# Altium integrated library avago.IntLib: 21 symbols
Pins are listed as number, name and electrical type; pins without a type are passive.

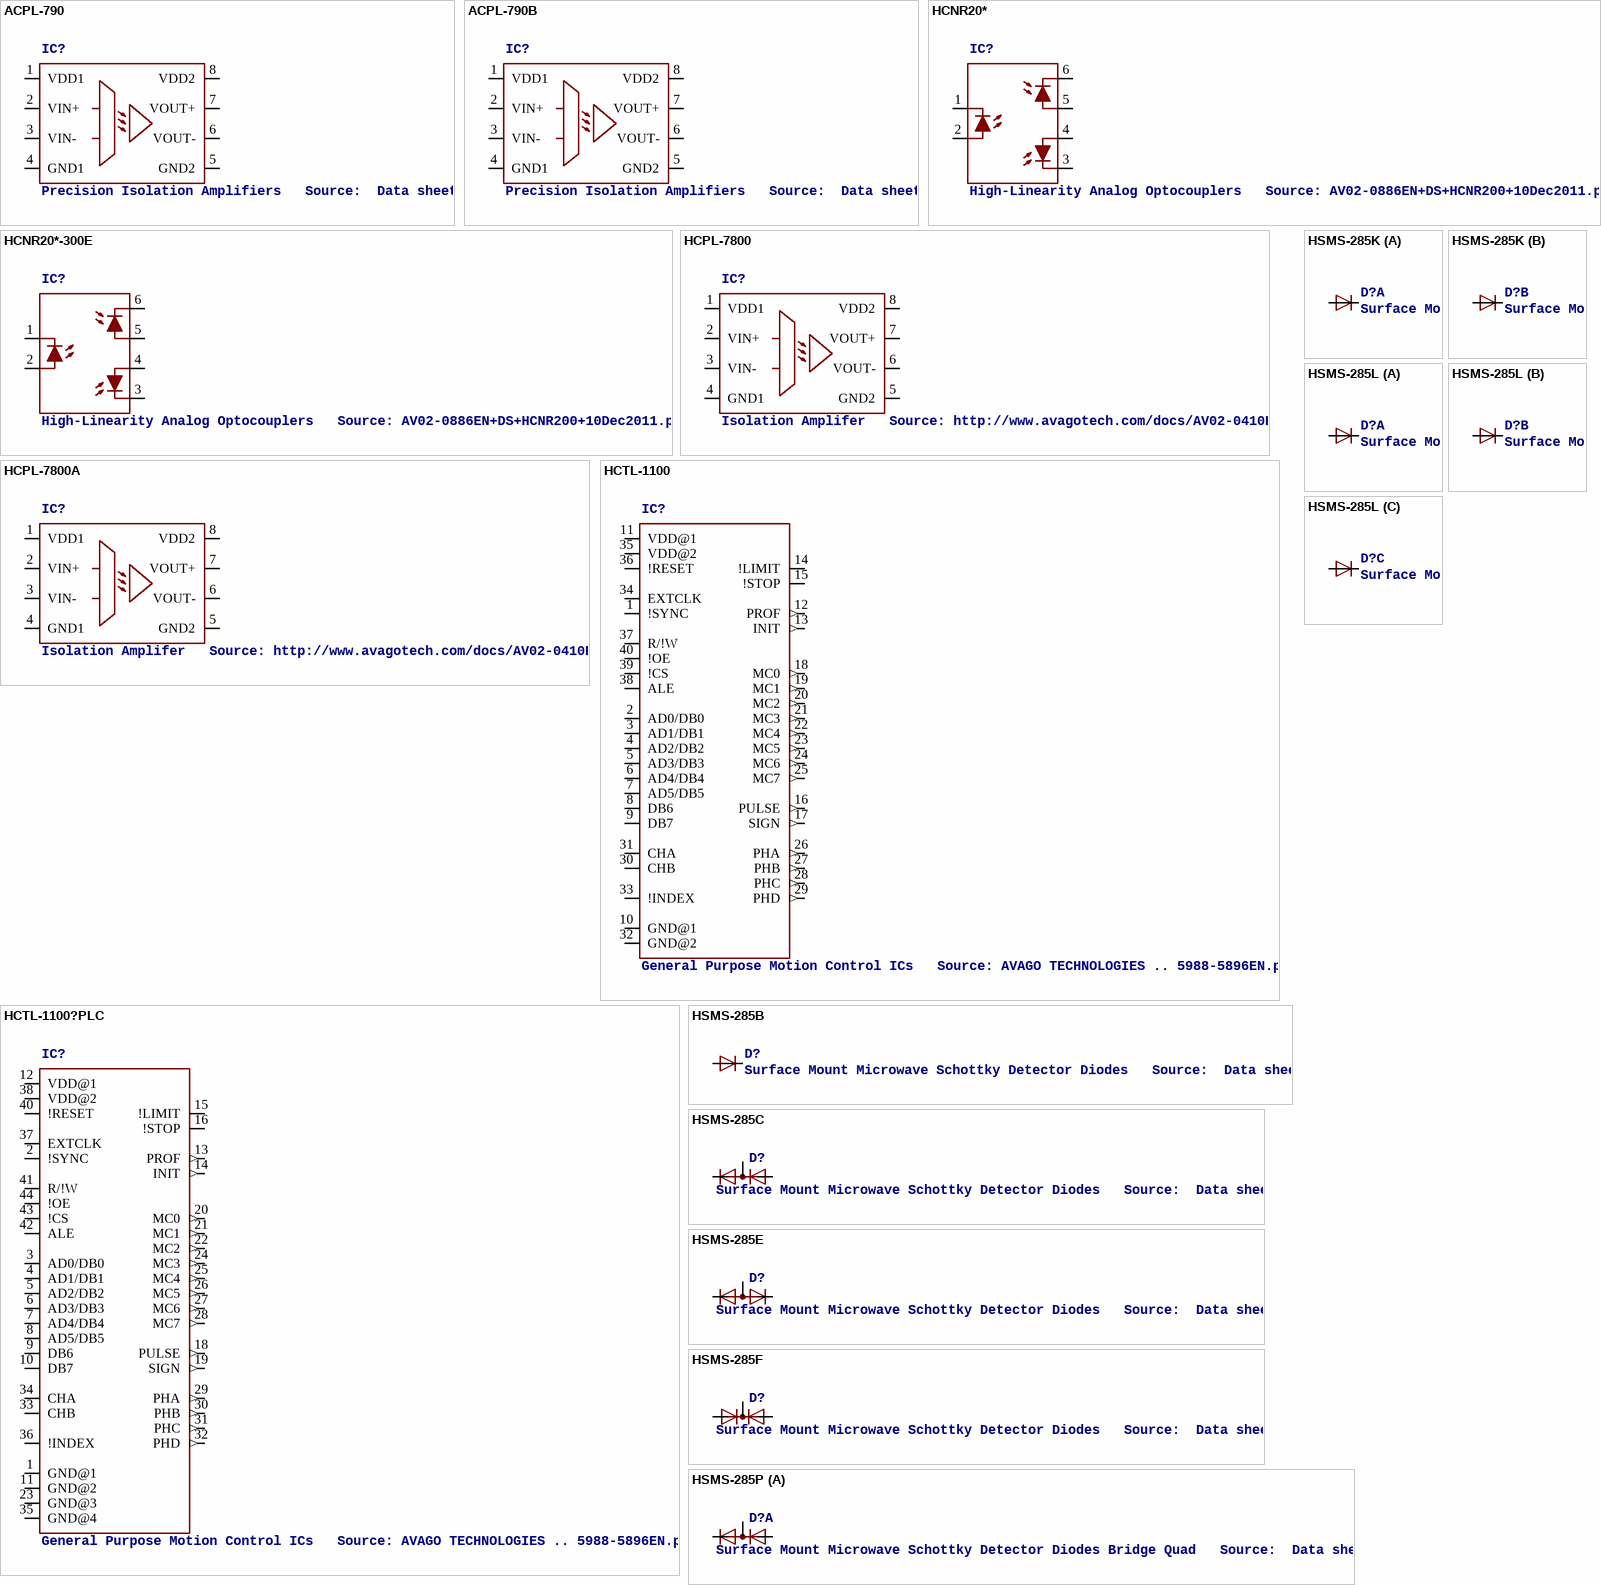
[diagram p0: symbols ACPL-790 to HSMS-285P]

## ACPL-790
designator IC?, comment Precision Isolation Amplifiers   Source:  Data sheet
footprint DIP8
pins: 1 VDD1 (power), 2 VIN+ (power), 3 VIN- (power), 4 GND1 (power), 5 GND2 (power), 6 VOUT- (power), 7 VOUT+ (power), 8 VDD2 (power)

## ACPL-790B
designator IC?, comment Precision Isolation Amplifiers   Source:  Data sheet
footprint DIL08
pins: 1 VDD1 (power), 2 VIN+ (power), 3 VIN- (power), 4 GND1 (power), 5 GND2 (power), 6 VOUT- (power), 7 VOUT+ (power), 8 VDD2 (power)

## HCNR20*
designator IC?, comment High-Linearity Analog Optocouplers   Source: AV02-0886EN+DS+HCNR200+10Dec2011.pdf
footprint DIL08-400
pins: 1 C, 2 A, 3 C1, 4 A1, 5 A2, 6 C2

## HCNR20*-300E
designator IC?, comment High-Linearity Analog Optocouplers   Source: AV02-0886EN+DS+HCNR200+10Dec2011.pdf
footprint DIP8-400
pins: 1 C, 2 A, 3 C1, 4 A1, 5 A2, 6 C2

## HCPL-7800
designator IC?, comment Isolation Amplifer   Source: http://www.avagotech.com/docs/AV02-0410EN
MPN: HCPL-7800A#500; OC_FARNELL: 459446; OC_NEWARK: 05M6395
footprint DIL08
pins: 1 VDD1 (power), 2 VIN+ (power), 3 VIN- (power), 4 GND1 (power), 5 GND2 (power), 6 VOUT- (power), 7 VOUT+ (power), 8 VDD2 (power)

## HCPL-7800A
designator IC?, comment Isolation Amplifer   Source: http://www.avagotech.com/docs/AV02-0410EN
MPN: HCPL-7800A-000E; MF: AGILENT TECHNOLOGIES; OC_FARNELL: 8550026; OC_NEWARK: 88H7847
footprint DIP8
pins: 1 VDD1 (power), 2 VIN+ (power), 3 VIN- (power), 4 GND1 (power), 5 GND2 (power), 6 VOUT- (power), 7 VOUT+ (power), 8 VDD2 (power)

## HCTL-1100
designator IC?, comment General Purpose Motion Control ICs   Source: AVAGO TECHNOLOGIES .. 5988-5896EN.pdf
MF: AGILENT TECHNOLOGIES; MPN: HCTL-1100; OC_FARNELL: 407460; OC_NEWARK: 17M9298
footprint DIL40
pins: 1 !SYNC, 2 AD0/DB0, 3 AD1/DB1, 4 AD2/DB2, 5 AD3/DB3, 6 AD4/DB4, 7 AD5/DB5, 8 DB6, 9 DB7, 10 GND@1 (power), 11 VDD@1 (power), 12 PROF (out), 13 INIT (out), 14 !LIMIT, 15 !STOP, 16 PULSE (out), 17 SIGN (out), 18 MC0 (out), 19 MC1 (out), 20 MC2 (out), 21 MC3 (out), 22 MC4 (out), 23 MC5 (out), 24 MC6 (out), 25 MC7 (out), 26 PHA (out), 27 PHB (out), 28 PHC (out), 29 PHD (out), 30 CHB, 31 CHA, 32 GND@2 (power), 33 !INDEX, 34 EXTCLK, 35 VDD@2 (power), 36 !RESET, 37 R/!W, 38 ALE, 39 !CS, 40 !OE

## HCTL-1100?PLC
designator IC?, comment General Purpose Motion Control ICs   Source: AVAGO TECHNOLOGIES .. 5988-5896EN.pdf
MPN: HCTL-1100#PLC; MF: AGILENT TECHNOLOGIES; OC_FARNELL: unknown; OC_NEWARK: 17M9299
footprint PLCC44
pins: 1 GND@1 (power), 2 !SYNC, 3 AD0/DB0, 4 AD1/DB1, 5 AD2/DB2, 6 AD3/DB3, 7 AD4/DB4, 8 AD5/DB5, 9 DB6, 10 DB7, 11 GND@2 (power), 12 VDD@1 (power), 13 PROF (out), 14 INIT (out), 15 !LIMIT, 16 !STOP, 18 PULSE (out), 19 SIGN (out), 20 MC0 (out), 21 MC1 (out), 22 MC2 (out), 23 GND@3 (power), 24 MC3 (out), 25 MC4 (out), 26 MC5 (out), 27 MC6 (out), 28 MC7 (out), 29 PHA (out), 30 PHB (out), 31 PHC (out), 32 PHD (out), 33 CHB, 34 CHA, 35 GND@4 (power), 36 !INDEX, 37 EXTCLK, 38 VDD@2 (power), 40 !RESET, 41 R/!W, 42 ALE, 43 !CS, 44 !OE

## HSMS-285B
designator D?, comment Surface Mount Microwave Schottky Detector Diodes   Source:  Data sheet
footprint SOT323
pins: 1 A, 3 C

## HSMS-285C
designator D?, comment Surface Mount Microwave Schottky Detector Diodes   Source:  Data sheet
footprint SOT323
pins: 1 A, 2 C, 3 AC

## HSMS-285E
designator D?, comment Surface Mount Microwave Schottky Detector Diodes   Source:  Data sheet
footprint SOT323
pins: 1 K1, 2 K2, 3 A

## HSMS-285F
designator D?, comment Surface Mount Microwave Schottky Detector Diodes   Source:  Data sheet
footprint SOT323
pins: 1 A1, 2 A2, 3 C

## HSMS-285K
designator D?, comment Surface Mount Microwave Schottky Detector Diodes High Isolatoin Unconnected Pair   Source:  Data sheet
footprint SOT363
part A pins: 1 A, 6 C
part B pins: 3 A, 4 C

## HSMS-285L
designator D?, comment Surface Mount Microwave Schottky Detector Diodes Unconnected Trio   Source:  Data sheet
footprint SOT363
part A pins: 1 A, 6 C
part B pins: 2 A, 5 C
part C pins: 3 A, 4 C

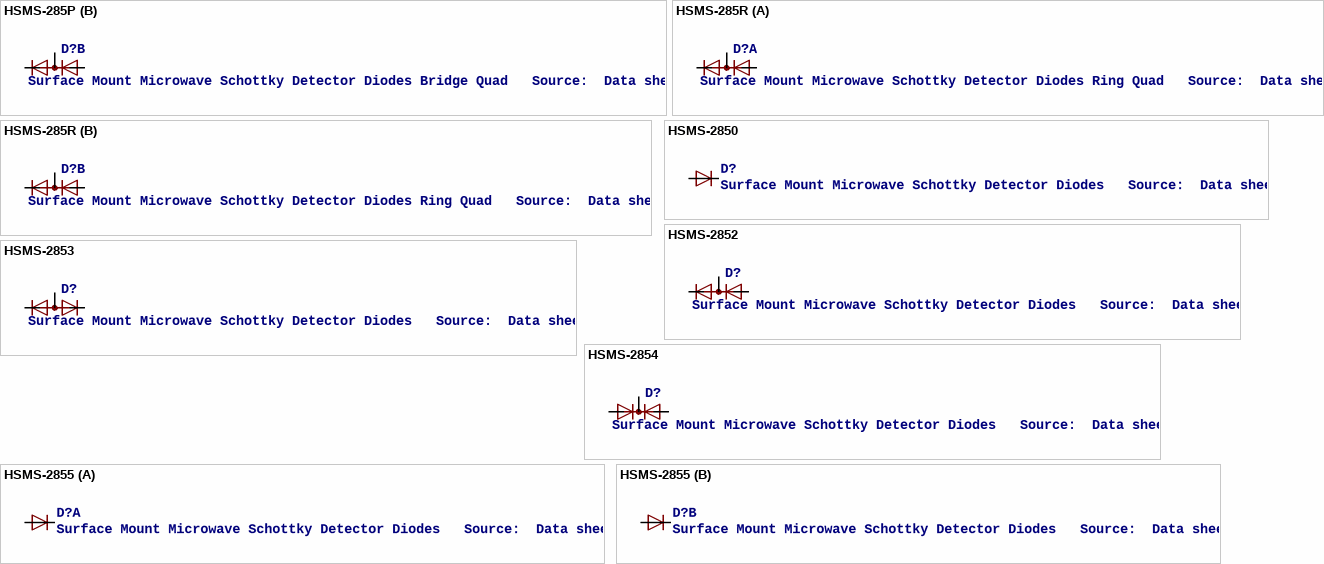
[diagram p1: symbols HSMS-285P to HSMS-2855]

## HSMS-285P
designator D?, comment Surface Mount Microwave Schottky Detector Diodes Bridge Quad   Source:  Data sheet
footprint SOT363
part A pins: 1 A, 2 AC, 3 C
part B pins: 4 C, 5 AC, 6 A

## HSMS-285R
designator D?, comment Surface Mount Microwave Schottky Detector Diodes Ring Quad   Source:  Data sheet
footprint SOT363
part A pins: 1 C, 2 AC, 3 A
part B pins: 4 C, 5 AC, 6 A

## HSMS-2850
designator D?, comment Surface Mount Microwave Schottky Detector Diodes   Source:  Data sheet
footprint SOT23
pins: 1 A, 3 C

## HSMS-2852
designator D?, comment Surface Mount Microwave Schottky Detector Diodes   Source:  Data sheet
footprint SOT23
pins: 1 A, 2 C, 3 AC

## HSMS-2853
designator D?, comment Surface Mount Microwave Schottky Detector Diodes   Source:  Data sheet
footprint SOT23
pins: 1 K1, 2 K2, 3 A

## HSMS-2854
designator D?, comment Surface Mount Microwave Schottky Detector Diodes   Source:  Data sheet
footprint SOT23
pins: 1 A1, 2 A2, 3 C

## HSMS-2855
designator D?, comment Surface Mount Microwave Schottky Detector Diodes   Source:  Data sheet
footprint SOT143_AVAGO
part A pins: 1 C, 3 A
part B pins: 2 C, 4 A